# EAGLE library part NACHT_USBCONNECTORS_B (library NachtElk_USBConnectors)
Nacht Elk. - USB Connectors Ekrem Turan Fırat Nacht Elk. - USB Connectors USB(2.0): Type-B Connector Model: 61729-1011BLF Mount Type: THT R/A Current Rating: 1A Operating Temperature: -55°C up to 85°C Datasheet <https://www.amphenol-icc.com/media/wysiwyg/files/drawing/61729.pdf> 19.01.2022
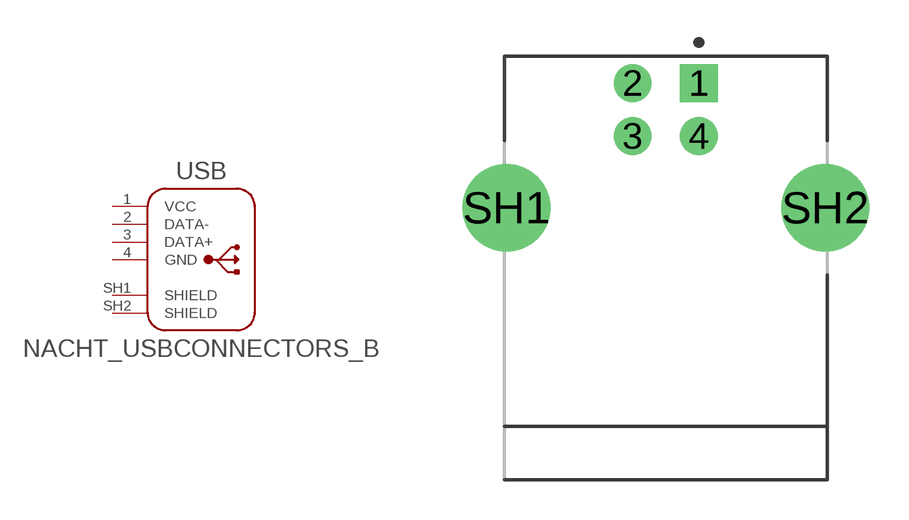
[diagram p0: symbol with the pads of USB-B; footprint USB-B]

Designator prefix USB

## NACHT_USBCONNECTORS_B (CURRENT: 1A; DIGI-KEY_NUMBER: 609-3657-ND; MODEL: 61729-1011BLF; MOUNT_TYPE: THT R/A; PART-NUMBER: 61729-1011BLF; TEMPERATURE: -55°C up to 85°C; USB_TYPE: USB-B; VALUE: USB-B)  [USB-B]
1  VCC  pwr
2  DATA-
3  DATA+
4  GND  pwr
SH1  SHIELD  sup
SH2  SHIELD  sup

## Footprint USB-B (pad centres in mm)
Nacht Elk. - USB Connectors Ekrem Turan Fırat Model: 61729-1011BLF Dimensions(LxWxH): 16x12x10 mm 19.01.2022
drill 0.92 square: 1 1.25,5.345
drill 0.92: 2 -1.25,5.345; 3 -1.25,3.345; 4 1.25,3.345
drill 2.3: SH1 -6.02,0.635; SH2 6.02,0.635